# Altium footprint library Buzzer.PcbLib: 4 footprints
Each footprint in its own frame and in the unit in brackets; x right, y up, seen from the top. Pads: shape width x height; smd on the part's side, far side on the other; paste and mask are expansions set on the pad; w line width, h text height; cw(c..) or ccw(c..) is an arc to the next point about the centre after c.
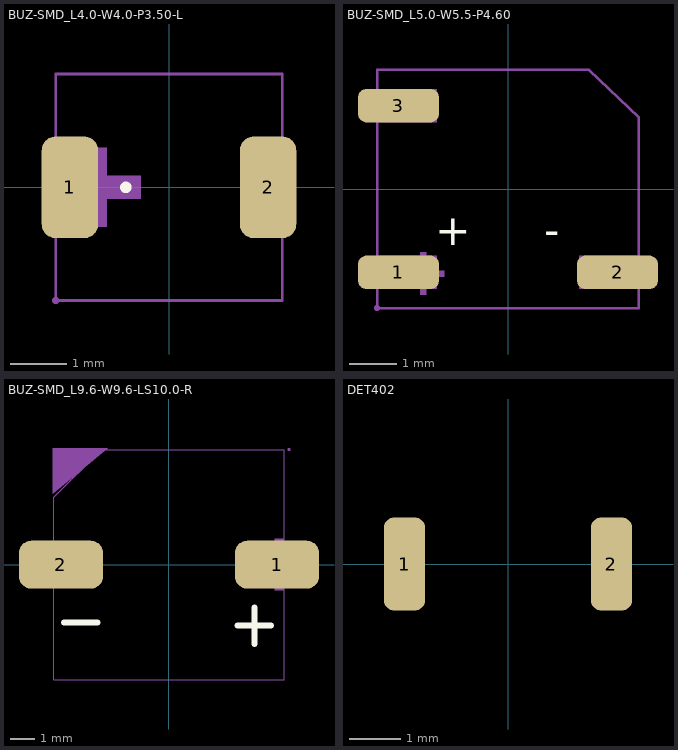
[diagram p0: the footprints below, top view; thin cyan lines are the x and y axes]

## BUZ-SMD_L4.0-W4.0-P3.50-L [mm]
pads (2):
  rrect50% 1x1.8 smd: 1(-1.75,0) 2(1.75,0)
Top Overlay:
  circle w0.152: c-0.762,0 r0.025
Mechanical 6:
  region: -2.1,0.2 -1.5,0.2 -1.5,0.7 -1.1,0.7 -1.1,0.2 -0.5,0.2 -0.5,-0.2 -1.1,-0.2 -1.1,-0.7 -1.5,-0.7 -1.5,-0.2 -2.1,-0.2
Mechanical 15:
  region: -1.94,-2 -1.94,-1.975 -1.975,-1.94 -2.025,-1.94 -2.06,-1.975 -2.06,-2 -2.06,-2.025 -2.025,-2.06 -1.975,-2.06 -1.94,-2.025 -1.94,-2
  region: 1.5,0.7 2,0.7 2,-0.7 1.5,-0.7
  region: -2,0.7 -1.5,0.7 -1.5,-0.7 -2,-0.7
  lines w0.051: -2,-2 -2,2 2,2 2,-2 -2,-2

## BUZ-SMD_L5.0-W5.5-P4.60 [mm]
pads (3):
  rrect50% 1.7x0.7 smd: 1(-2.3,-1.75) 2(2.3,-1.75) 3(-2.3,1.75)
Top Overlay:
  text "+" at -1.524,-1.177 h0.65
  text "-" at 0.762,-1.177 h0.65
Mechanical 6:
  region: -1.841,-2.222 -1.841,-1.841 -2.222,-1.841 -2.222,-1.714 -1.841,-1.714 -1.841,-1.333 -1.714,-1.333 -1.714,-1.714 -1.333,-1.714 -1.333,-1.841 -1.714,-1.841 -1.714,-2.222
  region: 1.587,-1.714 2.476,-1.714 2.476,-1.841 1.587,-1.841
Mechanical 15:
  region: -2.69,-2.5 -2.69,-2.475 -2.725,-2.44 -2.775,-2.44 -2.81,-2.475 -2.81,-2.5 -2.81,-2.525 -2.775,-2.56 -2.725,-2.56 -2.69,-2.525 -2.69,-2.5
  region: -2.75,2.1 -1.5,2.1 -1.5,1.4 -2.75,1.4
  region: -2.75,-1.4 -1.5,-1.4 -1.5,-2.1 -2.75,-2.1
  region: 1.5,-1.4 2.75,-1.4 2.75,-2.1 1.5,-2.1
  lines w0.051: -2.75,-2.5 -2.75,2.5 1.7,2.5 2.75,1.5 2.75,-2.5 -2.75,-2.5
3D body "buzzer3pin.step": height 2.01, standoff 0, extent -2.6,-2.622 2.6,2.654

## BUZ-SMD_L9.6-W9.6-LS10.0-R [mm]
pads (2):
  rrect50% 3.5x2 smd: 1(4.5,0) 2(-4.5,0)
Top Overlay:
  lines w0.254: -4.381,-2.413 -2.984,-2.413 ; 2.858,-2.54 4.255,-2.54 ; 3.557,-3.302 3.557,-1.778
Mechanical 6:
  region: 3.493,0.191 5.652,0.191 5.652,-0.191 3.493,-0.191
  region: 4.41,-1.07 4.41,1.089 4.791,1.089 4.791,-1.07
  region: -5.508,0.191 -3.349,0.191 -3.349,-0.191 -5.508,-0.191
  region: -2.55,4.85 -4.85,4.85 -4.85,2.95
Mechanical 15:
  region: 5.06,4.8 5.059,4.824 5.024,4.858 4.976,4.858 4.941,4.824 4.94,4.8 4.941,4.776 4.976,4.742 5.024,4.742 5.059,4.776 5.06,4.8
  region: 3.3,0.75 5,0.75 5,-0.75 3.3,-0.75
  region: -3.3,-0.75 -5,-0.75 -5,0.75 -3.3,0.75
  lines w0.051: -4.8,-4.8 4.8,-4.8 4.8,4.8 -2.8,4.8 -4.8,2.8 -4.8,-4.8
3D body "buz.step": height 4.95, standoff 0, extent -5,-4.81 5,4.8

## DET402 [mm]
height 4.3
pads (2):
  rrect50% 0.8x1.8 smd: 1(-2,0) 2(2,0)
3D body "User Library-DET402.STEP": height 2.03, standoff -0.02, extent -2.45,-1.5 2.44,1.5